# EAGLE library part 00-9175-01S (library con-elco)
3 WAY IDC WIRE TO BOARD CONNECTOR Source: ECLO EUROPE - 00-9175-01S.pdf
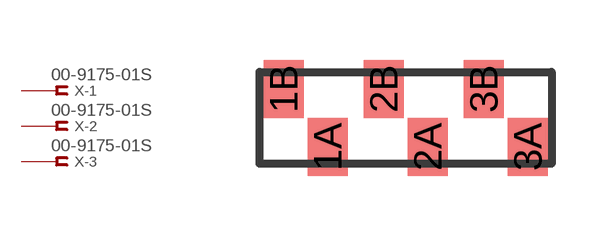
[diagram p0: symbol with the pads of 00-9175-01S; footprint 00-9175-01S]

Designator prefix X; gates -1=FV2 -2=FV2 -3=FV2

## 00-9175-01S (OC_FARNELL: unknown; OC_NEWARK: unknown)  [00-9175-01S]
1A  -1:1  pas
1B  -1:1  pas
2A  -2:1  pas
2B  -2:1  pas
3A  -3:1  pas
3B  -3:1  pas

## Footprint 00-9175-01S (pad centres in mm)
IDC WIRE TO BOARD CONNECTOR Source: 00-9175-01S.pdf
smd 1 x 1.45: 1A -1.95,-0.725; 1B -3.05,0.725; 2A 0.55,-0.725; 2B -0.55,0.725; 3A 3.05,-0.725; 3B 1.95,0.725